# Altium footprint library PcbLibConvert.PcbLib: 1 footprints
Each footprint in its own frame and in the unit in brackets; x right, y up, seen from the top. Pads: shape width x height; smd on the part's side, far side on the other; paste and mask are expansions set on the pad; w line width, h text height; cw(c..) or ccw(c..) is an arc to the next point about the centre after c.
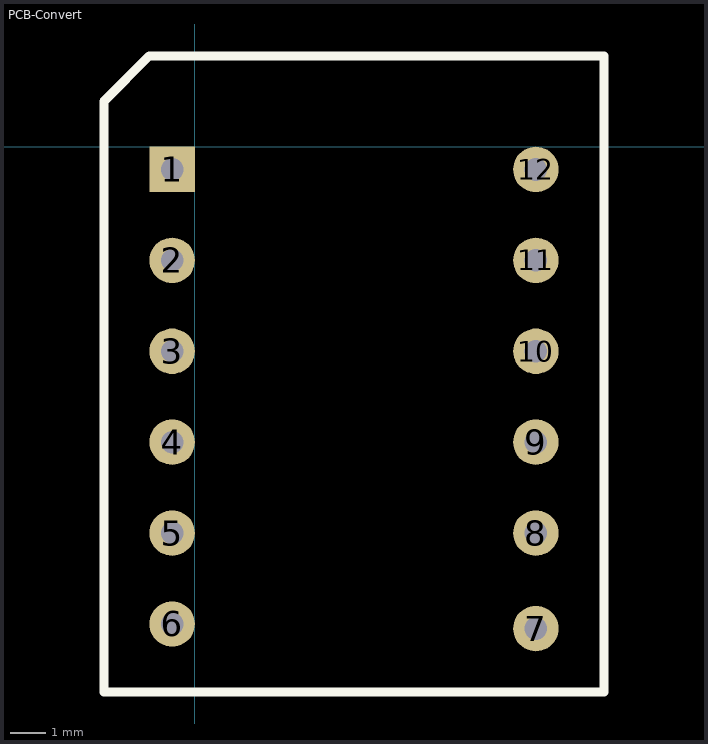
[diagram p0: the footprint, top view; thin cyan lines are the x and y axes]

## PCB-Convert [mil]
pads (12):
  rect 50x50 hole 25: 1(-25,-25)
  round 50 hole 25: 2(-25,-125) 3(-25,-225) 4(-25,-325) 5(-25,-425) 6(-25,-525) 7(375,-530) 8(375,-425) 9(375,-325) 10(375,-225) 11(375,-125) 12(375,-25)
Top Overlay:
  lines w10: -100,-600 -100,50 -50,100 450,100 450,-600 -100,-600